# Altium integrated library 691137710002.IntLib: 1 symbol
Pins are listed as number, name and electrical type; pins without a type are passive.

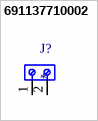
[diagram p0: symbol 691137710002]

## 691137710002
designator J?
2 Position Wire to Board Terminal Block Horizontal with Board 0.197 (5.00mm) Through Hole; MP: 691137710002; MF: WÃ¼rth Elektronik; Price: None; Check_prices: https://www.snapeda.com/parts/691137710002/W%C3%BCrth%20Elektronik/view-part/4793356/?ref=eda; SnapEDA_Link: https://www.snapeda.com/parts/691137710002/W%C3%BCrth%20Elektronik/view-part/4793356/?ref=snap; Package: None; Availability: Warning; Value: *; Purchase-URL: https://pricing.snapeda.com/search/part/691137710002/?ref=eda
footprint 691137710002
pins: 1, 2